# EAGLE library part FET-N-2CH (library FlashPCB_Transistors)
FET-N-2CH - Dual N-Channel Field Effect Transistor(FET) Technical Specifications: MOSFET: N-CHANNEL Number of FET's: 2 Component Search: 2N7002DW <https://www.flashpcb.com/components> Datasheet: Field Effect Transistor - N-Channel, Enhancement Mode 2N7002DW <https://www.onsemi.com/pdf/datasheet/2n7002dw-d.pdf>
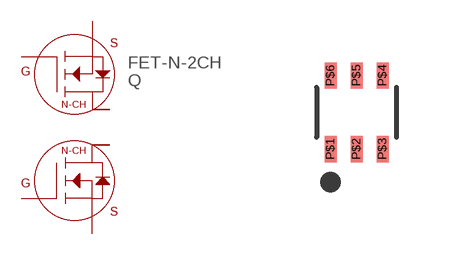
[diagram p0: symbol with the pads of SC70-6; footprint SC70-6]

Designator prefix Q

## FET-N-2CHSC-70-6  [SC70-6]
P$1  SOURCE2
P$2  GATE2
P$3  DRAIN1
P$4  SOURCE1
P$5  GATE1
P$6  DRAIN2

## Footprint SC70-6 (pad centres in mm)
smd 0.3 x 0.66: P$1 -0.65,-0.92; P$2 0,-0.92; P$3 0.65,-0.92; P$4 0.65,0.92; P$5 0,0.92; P$6 -0.65,0.92